# Altium schematic symbol library RES_4.7K OHM_1%.SchLib: 1 symbol
Pins are listed as number, name and electrical type; pins without a type are passive.

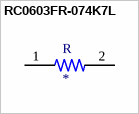
[diagram p0: symbol RC0603FR-074K7L]

## RC0603FR-074K7L
designator R
4.7 kOhms Â±1% 0.1W, 1/10W Chip Resistor 0603 _1608 Metric_ Moisture Resistant Thick Film; MP: RC0603FR-074K7L; MF: Yageo; Value: *; SnapEDA_Link: https://www.snapeda.com/parts/RC0603FR-074K7L/Yageo/view-part/473520/?ref=snap; Availability: Unavailable; Price: None; Package: 0603 Yageo
footprint RESC1607X60N
pins: 1, 2